# EAGLE library part LTC6802-2 (library KylePile)
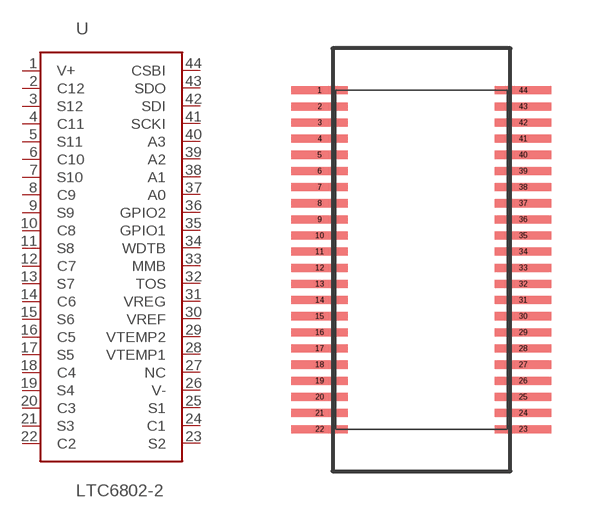
[diagram p24: symbol with the pads of 44-SSOP; footprint 44-SSOP]

Designator prefix -

## LTC6802-2  [44-SSOP]
1  V+
2  C12
3  S12
4  C11
5  S11
6  C10
7  S10
8  C9
9  S9
10  C8
11  S8
12  C7
13  S7
14  C6
15  S6
16  C5
17  S5
18  C4
19  S4
20  C3
21  S3
22  C2
23  S2
24  C1
25  S1
26  V-
27  NC
28  VTEMP1
29  VTEMP2
30  VREF
31  VREG
32  TOS
33  MMB
34  WDTB
35  GPIO1
36  GPIO2
37  A0
38  A1
39  A2
40  A3
41  SCKI
42  SDI
43  SDO
44  CSBI

## Footprint 44-SSOP (pad centres in mm)
44-SSOP Untested 2/16/16 KRP
smd 1.75 x 0.25: 1 -0.5,10.5; 2 -0.5,10; 3 -0.5,9.5; 4 -0.5,9; 5 -0.5,8.5; 6 -0.5,8; 7 -0.5,7.5; 8 -0.5,7; 9 -0.5,6.5; 10 -0.5,6; 11 -0.5,5.5; 12 -0.5,5; 13 -0.5,4.5; 14 -0.5,4; 15 -0.5,3.5; 16 -0.5,3; 17 -0.5,2.5; 18 -0.5,2; 19 -0.5,1.5; 20 -0.5,1; 21 -0.5,0.5; 22 -0.5,0; 23 5.8,0; 24 5.8,0.5; 25 5.8,1; 26 5.8,1.5; 27 5.8,2; 28 5.8,2.5; 29 5.8,3; 30 5.8,3.5; 31 5.8,4; 32 5.8,4.5; 33 5.8,5; 34 5.8,5.5; 35 5.8,6; 36 5.8,6.5; 37 5.8,7; 38 5.8,7.5; 39 5.8,8; 40 5.8,8.5; 41 5.8,9; 42 5.8,9.5; 43 5.8,10; 44 5.8,10.5